# Altium integrated library WE-VS SMD Varistor.IntLib: 55 symbols
Pins are listed as number, name and electrical type; pins without a type are passive.

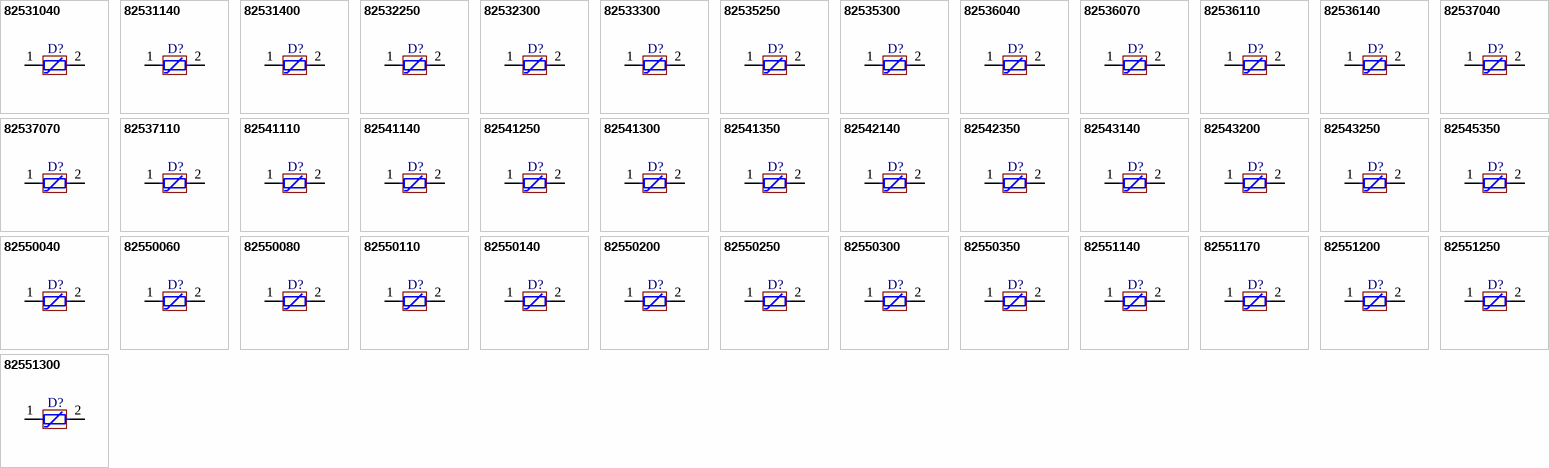
[diagram p0: symbols 82531040 to 82551300]

## 82531040
designator D?
ESD Suppressor WE-VS-SMD, VDC=5.5V; PartNumber: 82531040; Reverse Stand Off Voltage: 5.5V; PackageReference: 1206; ComponentLink1Description: Manufacturer URL; ComponentLink1URL: http://www.we-online.com; ComponentLink2Description: Datasheet; ComponentLink2URL: http://katalog.we-online.de/kataloge/eisos/media/pdf/82531040.pdf
footprint 1206 (1206,2-Leads, Body 6.5x2.2mm, Pitch 2.7mm)
pins: 1 I/O1, 2 I/O1

## 82531140
designator D?
ESD Suppressor WE-VS-SMD, VDC=18.0V; PartNumber: 82531140; Reverse Stand Off Voltage: 18.0V; PackageReference: 1206; ComponentLink1Description: Manufacturer URL; ComponentLink1URL: http://www.we-online.com; ComponentLink2Description: Datasheet; ComponentLink2URL: http://katalog.we-online.de/kataloge/eisos/media/pdf/82531140.pdf
footprint 1206 (1206,2-Leads, Body 6.5x2.2mm, Pitch 2.7mm)
pins: 1 I/O1, 2 I/O1

## 82531400
designator D?
ESD Suppressor WE-VS-SMD, VDC=5.5V; PartNumber: 82531400; Reverse Stand Off Voltage: 56.0V; PackageReference: 1206; ComponentLink1Description: Manufacturer URL; ComponentLink1URL: http://www.we-online.com; ComponentLink2Description: Datasheet; ComponentLink2URL: http://katalog.we-online.de/kataloge/eisos/media/pdf/82531400.pdf
footprint 1206 (1206,2-Leads, Body 6.5x2.2mm, Pitch 2.7mm)
pins: 1 I/O1, 2 I/O1

## 82532250
designator D?
ESD Suppressor WE-VS-SMD, VDC=30.0V; PartNumber: 82532250; Reverse Stand Off Voltage: 30.0V; PackageReference: 2220; ComponentLink1Description: Manufacturer URL; ComponentLink1URL: http://www.we-online.com; ComponentLink2Description: Datasheet; ComponentLink2URL: http://katalog.we-online.de/kataloge/eisos/media/pdf/82532250.pdf
footprint 2220 (2220, 2-Leads, Body 9.4x5.7mm, Pitch 6.7mm)
pins: 1 I/O1, 2 I/O1

## 82532300
designator D?
ESD Suppressor WE-VS-SMD, VDC=38.0V; PartNumber: 82532300; Reverse Stand Off Voltage: 38.0V; PackageReference: 2220; ComponentLink1Description: Manufacturer URL; ComponentLink1URL: http://www.we-online.com; ComponentLink2Description: Datasheet; ComponentLink2URL: http://katalog.we-online.de/kataloge/eisos/media/pdf/82532300.pdf
footprint 2220 (2220, 2-Leads, Body 9.4x5.7mm, Pitch 6.7mm)
pins: 1 I/O1, 2 I/O1

## 82533300
designator D?
ESD Suppressor WE-VS-SMD, VDC=38.0V; PartNumber: 82533300; Reverse Stand Off Voltage: 38.0V; PackageReference: 1210; ComponentLink1Description: Manufacturer URL; ComponentLink1URL: http://www.we-online.com; ComponentLink2Description: Datasheet; ComponentLink2URL: http://katalog.we-online.de/kataloge/eisos/media/pdf/82533300.pdf
footprint 1210 (1210, 2-Leads, Body 6.9x3.3mm, Pitch 4.5mm)
pins: 1 I/O1, 2 I/O1

## 82535250
designator D?
ESD Suppressor WE-VS-SMD, VDC=30.0V; PartNumber: 82535250; Reverse Stand Off Voltage: 30.0V; PackageReference: 1812; ComponentLink1Description: Manufacturer URL; ComponentLink1URL: http://www.we-online.com; ComponentLink2Description: Datasheet; ComponentLink2URL: http://katalog.we-online.de/kataloge/eisos/media/pdf/82535250.pdf
footprint 1812 (1812, 2-Leads, Body 8.2x3.9mm, Pitch 5.6mm)
pins: 1 I/O1, 2 I/O1

## 82535300
designator D?
ESD Suppressor WE-VS-SMD, VDC=38.0V; PartNumber: 82535300; Reverse Stand Off Voltage: 38.0V; PackageReference: 1812; ComponentLink1Description: Manufacturer URL; ComponentLink1URL: http://www.we-online.com; ComponentLink2Description: Datasheet; ComponentLink2URL: http://katalog.we-online.de/kataloge/eisos/media/pdf/82535300.pdf
footprint 1812 (1812, 2-Leads, Body 8.2x3.9mm, Pitch 5.6mm)
pins: 1 I/O1, 2 I/O1

## 82536040
designator D?
ESD Suppressor WE-VS-SMD, VDC=5.5V; PartNumber: 82536040; Reverse Stand Off Voltage: 5.5V; PackageReference: 0603; ComponentLink1Description: Manufacturer URL; ComponentLink1URL: http://www.we-online.com; ComponentLink2Description: Datasheet; ComponentLink2URL: http://katalog.we-online.de/kataloge/eisos/media/pdf/82536040.pdf
footprint 0603 (0603, 2-Leads, Body 3.6x1.4mm, Pitch 2.3mm)
pins: 1 I/O1, 2 I/O1

## 82536070
designator D?
ESD Suppressor WE-VS-SMD, VDC=9.0V; PartNumber: 82536070; Reverse Stand Off Voltage: 9.0V; PackageReference: 0603; ComponentLink1Description: Manufacturer URL; ComponentLink1URL: http://www.we-online.com; ComponentLink2Description: Datasheet; ComponentLink2URL: http://katalog.we-online.de/kataloge/eisos/media/pdf/82536070.pdf
footprint 0603 (0603, 2-Leads, Body 3.6x1.4mm, Pitch 2.3mm)
pins: 1 I/O1, 2 I/O1

## 82536110
designator D?
ESD Suppressor WE-VS-SMD, VDC=14.0V; PartNumber: 82536110; Reverse Stand Off Voltage: 14.0V; PackageReference: 0603; ComponentLink1Description: Manufacturer URL; ComponentLink1URL: http://www.we-online.com; ComponentLink2Description: Datasheet; ComponentLink2URL: http://katalog.we-online.de/kataloge/eisos/media/pdf/82536110.pdf
footprint 0603 (0603, 2-Leads, Body 3.6x1.4mm, Pitch 2.3mm)
pins: 1 I/O1, 2 I/O1

## 82536140
designator D?
ESD Suppressor WE-VS-SMD, VDC=18.0V; PartNumber: 82536140; Reverse Stand Off Voltage: 18.0V; PackageReference: 0603; ComponentLink1Description: Manufacturer URL; ComponentLink1URL: http://www.we-online.com; ComponentLink2Description: Datasheet; ComponentLink2URL: http://katalog.we-online.de/kataloge/eisos/media/pdf/82536140.pdf
footprint 0603 (0603, 2-Leads, Body 3.6x1.4mm, Pitch 2.3mm)
pins: 1 I/O1, 2 I/O1

## 82537040
designator D?
ESD Suppressor WE-VS-SMD, VDC=5.5V; PartNumber: 82537040; Reverse Stand Off Voltage: 5.5V; PackageReference: 0402; ComponentLink1Description: Manufacturer URL; ComponentLink1URL: http://www.we-online.com; ComponentLink2Description: Datasheet; ComponentLink2URL: http://katalog.we-online.de/kataloge/eisos/media/pdf/82537040.pdf
footprint 0402 (0402, 2-Leads, Body 2.3x0.7mm, Pitch 1.4mm)
pins: 1 I/O1, 2 I/O1

## 82537070
designator D?
ESD Suppressor WE-VS-SMD, VDC=9.0V; PartNumber: 82537070; Reverse Stand Off Voltage: 9.0V; PackageReference: 0402; ComponentLink1Description: Manufacturer URL; ComponentLink1URL: http://www.we-online.com; ComponentLink2Description: Datasheet; ComponentLink2URL: http://katalog.we-online.de/kataloge/eisos/media/pdf/82537070.pdf
footprint 0402 (0402, 2-Leads, Body 2.3x0.7mm, Pitch 1.4mm)
pins: 1 I/O1, 2 I/O1

## 82537110
designator D?
ESD Suppressor WE-VS-SMD, VDC=14.0V; PartNumber: 82537110; Reverse Stand Off Voltage: 14.0V; PackageReference: 0402; ComponentLink1Description: Manufacturer URL; ComponentLink1URL: http://www.we-online.com; ComponentLink2Description: Datasheet; ComponentLink2URL: http://katalog.we-online.de/kataloge/eisos/media/pdf/82537110.pdf
footprint 0402 (0402, 2-Leads, Body 2.3x0.7mm, Pitch 1.4mm)
pins: 1 I/O1, 2 I/O1

## 82541110
designator D?
ESD Suppressor WE-VS-SMD, VDC=14.0V; PartNumber: 82541110; Reverse Stand Off Voltage: 14.0V; PackageReference: 1206; ComponentLink1Description: Manufacturer URL; ComponentLink1URL: http://www.we-online.com; ComponentLink2Description: Datasheet; ComponentLink2URL: http://katalog.we-online.de/kataloge/eisos/media/pdf/82541110.pdf
footprint 1206 (1206,2-Leads, Body 6.5x2.2mm, Pitch 2.7mm)
pins: 1 I/O1, 2 I/O1

## 82541140
designator D?
ESD Suppressor WE-VS-SMD, VDC=18.0V; PartNumber: 82541140; Reverse Stand Off Voltage: 18.0V; PackageReference: 1206; ComponentLink1Description: Manufacturer URL; ComponentLink1URL: http://www.we-online.com; ComponentLink2Description: Datasheet; ComponentLink2URL: http://katalog.we-online.de/kataloge/eisos/media/pdf/82541140.pdf
footprint 1206 (1206,2-Leads, Body 6.5x2.2mm, Pitch 2.7mm)
pins: 1 I/O1, 2 I/O1

## 82541250
designator D?
ESD Suppressor WE-VS-SMD, VDC=30.0V; PartNumber: 82541250; Reverse Stand Off Voltage: 30.0V; PackageReference: 1206; ComponentLink1Description: Manufacturer URL; ComponentLink1URL: http://www.we-online.com; ComponentLink2Description: Datasheet; ComponentLink2URL: http://katalog.we-online.de/kataloge/eisos/media/pdf/82541250.pdf
footprint 1206 (1206,2-Leads, Body 6.5x2.2mm, Pitch 2.7mm)
pins: 1 I/O1, 2 I/O1

## 82541300
designator D?
ESD Suppressor WE-VS-SMD, VDC=38.0V; PartNumber: 82541300; Reverse Stand Off Voltage: 38.0V; PackageReference: 1206; ComponentLink1Description: Manufacturer URL; ComponentLink1URL: http://www.we-online.com; ComponentLink2Description: Datasheet; ComponentLink2URL: http://katalog.we-online.de/kataloge/eisos/media/pdf/82541300.pdf
footprint 1206 (1206,2-Leads, Body 6.5x2.2mm, Pitch 2.7mm)
pins: 1 I/O1, 2 I/O1

## 82541350
designator D?
ESD Suppressor WE-VS-SMD, VDC=45.0V; PartNumber: 82541350; Reverse Stand Off Voltage: 45.0V; PackageReference: 1206; ComponentLink1Description: Manufacturer URL; ComponentLink1URL: http://www.we-online.com; ComponentLink2Description: Datasheet; ComponentLink2URL: http://katalog.we-online.de/kataloge/eisos/media/pdf/82541350.pdf
footprint 1206 (1206,2-Leads, Body 6.5x2.2mm, Pitch 2.7mm)
pins: 1 I/O1, 2 I/O1

## 82542140
designator D?
ESD Suppressor WE-VS-SMD, VDC=18.0V; PartNumber: 82542140; Reverse Stand Off Voltage: 18.0V; PackageReference: 2220; ComponentLink1Description: Manufacturer URL; ComponentLink1URL: http://www.we-online.com; ComponentLink2Description: Datasheet; ComponentLink2URL: http://katalog.we-online.de/kataloge/eisos/media/pdf/82542140.pdf
footprint 2220 (2220, 2-Leads, Body 9.4x5.7mm, Pitch 6.7mm)
pins: 1 I/O1, 2 I/O1

## 82542350
designator D?
ESD Suppressor WE-VS-SMD, VDC=45.0V; PartNumber: 82542350; Reverse Stand Off Voltage: 45.0V; PackageReference: 2220; ComponentLink1Description: Manufacturer URL; ComponentLink1URL: http://www.we-online.com; ComponentLink2Description: Datasheet; ComponentLink2URL: http://katalog.we-online.de/kataloge/eisos/media/pdf/82542350.pdf
footprint 2220 (2220, 2-Leads, Body 9.4x5.7mm, Pitch 6.7mm)
pins: 1 I/O1, 2 I/O1

## 82543140
designator D?
ESD Suppressor WE-VS-SMD, VDC=18.0V; PartNumber: 82543140; Reverse Stand Off Voltage: 18.0V; PackageReference: 1210; ComponentLink1Description: Manufacturer URL; ComponentLink1URL: http://www.we-online.com; ComponentLink2Description: Datasheet; ComponentLink2URL: http://katalog.we-online.de/kataloge/eisos/media/pdf/82543140.pdf
footprint 1210 (1210, 2-Leads, Body 6.9x3.3mm, Pitch 4.5mm)
pins: 1 I/O1, 2 I/O1

## 82543200
designator D?
ESD Suppressor WE-VS-SMD, VDC=26.0V; PartNumber: 82543200; Reverse Stand Off Voltage: 26.0V; PackageReference: 1210; ComponentLink1Description: Manufacturer URL; ComponentLink1URL: http://www.we-online.com; ComponentLink2Description: Datasheet; ComponentLink2URL: http://katalog.we-online.de/kataloge/eisos/media/pdf/82543200.pdf
footprint 1210 (1210, 2-Leads, Body 6.9x3.3mm, Pitch 4.5mm)
pins: 1 I/O1, 2 I/O1

## 82543250
designator D?
ESD Suppressor WE-VS-SMD, VDC=30.0V; PartNumber: 82543250; Reverse Stand Off Voltage: 30.0V; PackageReference: 1210; ComponentLink1Description: Manufacturer URL; ComponentLink1URL: http://www.we-online.com; ComponentLink2Description: Datasheet; ComponentLink2URL: http://katalog.we-online.de/kataloge/eisos/media/pdf/82543250.pdf
footprint 1210 (1210, 2-Leads, Body 6.9x3.3mm, Pitch 4.5mm)
pins: 1 I/O1, 2 I/O1

## 82545350
designator D?
ESD Suppressor WE-VS-SMD, VDC=45.0V; PartNumber: 82545350; Reverse Stand Off Voltage: 45.0V; PackageReference: 1812; ComponentLink1Description: Manufacturer URL; ComponentLink1URL: http://www.we-online.com; ComponentLink2Description: Datasheet; ComponentLink2URL: http://katalog.we-online.de/kataloge/eisos/media/pdf/82545350.pdf
footprint 1812 (1812, 2-Leads, Body 8.2x3.9mm, Pitch 5.6mm)
pins: 1 I/O1, 2 I/O1

## 82550040
designator D?
ESD Suppressor WE-VS-SMD, VDC=5.5V; PartNumber: 82550040; Reverse Stand Off Voltage: 5.5V; PackageReference: 0805; ComponentLink1Description: Manufacturer URL; ComponentLink1URL: http://www.we-online.com; ComponentLink2Description: Datasheet; ComponentLink2URL: http://katalog.we-online.de/kataloge/eisos/media/pdf/82550040.pdf
footprint 0805 (0805, 2-Leads, Body 4.7x1.8mm, Pitch 3mm)
pins: 1 I/O1, 2 I/O1

## 82550060
designator D?
ESD Suppressor WE-VS-SMD, VDC=9.0V; PartNumber: 82550060; Reverse Stand Off Voltage: 9.0V; PackageReference: 0805; ComponentLink1Description: Manufacturer URL; ComponentLink1URL: http://www.we-online.com; ComponentLink2Description: Datasheet; ComponentLink2URL: http://katalog.we-online.de/kataloge/eisos/media/pdf/82550060.pdf
footprint 0805 (0805, 2-Leads, Body 4.7x1.8mm, Pitch 3mm)
pins: 1 I/O1, 2 I/O1

## 82550080
designator D?
ESD Suppressor WE-VS-SMD, VDC=11.0V; PartNumber: 82550080; Reverse Stand Off Voltage: 11.0V; PackageReference: 0805; ComponentLink1Description: Manufacturer URL; ComponentLink1URL: http://www.we-online.com; ComponentLink2Description: Datasheet; ComponentLink2URL: http://katalog.we-online.de/kataloge/eisos/media/pdf/82550080.pdf
footprint 0805 (0805, 2-Leads, Body 4.7x1.8mm, Pitch 3mm)
pins: 1 I/O1, 2 I/O1

## 82550110
designator D?
ESD Suppressor WE-VS-SMD, VDC=14.0V; PartNumber: 82550110; Reverse Stand Off Voltage: 14.0V; PackageReference: 0805; ComponentLink1Description: Manufacturer URL; ComponentLink1URL: http://www.we-online.com; ComponentLink2Description: Datasheet; ComponentLink2URL: http://katalog.we-online.de/kataloge/eisos/media/pdf/82550110.pdf
footprint 0805 (0805, 2-Leads, Body 4.7x1.8mm, Pitch 3mm)
pins: 1 I/O1, 2 I/O1

## 82550140
designator D?
ESD Suppressor WE-VS-SMD, VDC=18.0V; PartNumber: 82550140; Reverse Stand Off Voltage: 18.0V; PackageReference: 0805; ComponentLink1Description: Manufacturer URL; ComponentLink1URL: http://www.we-online.com; ComponentLink2Description: Datasheet; ComponentLink2URL: http://katalog.we-online.de/kataloge/eisos/media/pdf/82550140.pdf
footprint 0805 (0805, 2-Leads, Body 4.7x1.8mm, Pitch 3mm)
pins: 1 I/O1, 2 I/O1

## 82550200
designator D?
ESD Suppressor WE-VS-SMD, VDC=26.0V; PartNumber: 82550200; Reverse Stand Off Voltage: 26.0V; PackageReference: 0805; ComponentLink1Description: Manufacturer URL; ComponentLink1URL: http://www.we-online.com; ComponentLink2Description: Datasheet; ComponentLink2URL: http://katalog.we-online.de/kataloge/eisos/media/pdf/82550200.pdf
footprint 0805 (0805, 2-Leads, Body 4.7x1.8mm, Pitch 3mm)
pins: 1 I/O1, 2 I/O1

## 82550250
designator D?
ESD Suppressor WE-VS-SMD, VDC=30.0V; PartNumber: 82550250; Reverse Stand Off Voltage: 30.0V; PackageReference: 0805; ComponentLink1Description: Manufacturer URL; ComponentLink1URL: http://www.we-online.com; ComponentLink2Description: Datasheet; ComponentLink2URL: http://katalog.we-online.de/kataloge/eisos/media/pdf/82550250.pdf
footprint 0805 (0805, 2-Leads, Body 4.7x1.8mm, Pitch 3mm)
pins: 1 I/O1, 2 I/O1

## 82550300
designator D?
ESD Suppressor WE-VS-SMD, VDC=38.0V; PartNumber: 82550300; Reverse Stand Off Voltage: 38.0V; PackageReference: 0805; ComponentLink1Description: Manufacturer URL; ComponentLink1URL: http://www.we-online.com; ComponentLink2Description: Datasheet; ComponentLink2URL: http://katalog.we-online.de/kataloge/eisos/media/pdf/82550300.pdf
footprint 0805 (0805, 2-Leads, Body 4.7x1.8mm, Pitch 3mm)
pins: 1 I/O1, 2 I/O1

## 82550350
designator D?
ESD Suppressor WE-VS-SMD, VDC=45.0V; PartNumber: 82550350; Reverse Stand Off Voltage: 45.0V; PackageReference: 0805; ComponentLink1Description: Manufacturer URL; ComponentLink1URL: http://www.we-online.com; ComponentLink2Description: Datasheet; ComponentLink2URL: http://katalog.we-online.de/kataloge/eisos/media/pdf/82550350.pdf
footprint 0805 (0805, 2-Leads, Body 4.7x1.8mm, Pitch 3mm)
pins: 1 I/O1, 2 I/O1

## 82551140
designator D?
ESD Suppressor WE-VS-SMD, VDC=18.0V; PartNumber: 82551140; Reverse Stand Off Voltage: 18.0V; PackageReference: 1206; ComponentLink1Description: Manufacturer URL; ComponentLink1URL: http://www.we-online.com; ComponentLink2Description: Datasheet; ComponentLink2URL: http://katalog.we-online.de/kataloge/eisos/media/pdf/82551140.pdf
footprint 1206 (1206,2-Leads, Body 6.5x2.2mm, Pitch 2.7mm)
pins: 1 I/O1, 2 I/O1

## 82551170
designator D?
ESD Suppressor WE-VS-SMD, VDC=22.0V; PartNumber: 82551170; Reverse Stand Off Voltage: 22.0V; PackageReference: 1206; ComponentLink1Description: Manufacturer URL; ComponentLink1URL: http://www.we-online.com; ComponentLink2Description: Datasheet; ComponentLink2URL: http://katalog.we-online.de/kataloge/eisos/media/pdf/82551170.pdf
footprint 1206 (1206,2-Leads, Body 6.5x2.2mm, Pitch 2.7mm)
pins: 1 I/O1, 2 I/O1

## 82551200
designator D?
ESD Suppressor WE-VS-SMD, VDC=26.0V; PartNumber: 82551200; Reverse Stand Off Voltage: 26.0V; PackageReference: 1206; ComponentLink1Description: Manufacturer URL; ComponentLink1URL: http://www.we-online.com; ComponentLink2Description: Datasheet; ComponentLink2URL: http://katalog.we-online.de/kataloge/eisos/media/pdf/82551200.pdf
footprint 1206 (1206,2-Leads, Body 6.5x2.2mm, Pitch 2.7mm)
pins: 1 I/O1, 2 I/O1

## 82551250
designator D?
ESD Suppressor WE-VS-SMD, VDC=30.0V; PartNumber: 82551250; Reverse Stand Off Voltage: 30.0V; PackageReference: 1206; ComponentLink1Description: Manufacturer URL; ComponentLink1URL: http://www.we-online.com; ComponentLink2Description: Datasheet; ComponentLink2URL: http://katalog.we-online.de/kataloge/eisos/media/pdf/82551250.pdf
footprint 1206 (1206,2-Leads, Body 6.5x2.2mm, Pitch 2.7mm)
pins: 1 I/O1, 2 I/O1

## 82551300
designator D?
ESD Suppressor WE-VS-SMD, VDC=38.0V; PartNumber: 82551300; Reverse Stand Off Voltage: 38.0V; PackageReference: 1206; ComponentLink1Description: Manufacturer URL; ComponentLink1URL: http://www.we-online.com; ComponentLink2Description: Datasheet; ComponentLink2URL: http://katalog.we-online.de/kataloge/eisos/media/pdf/82551300.pdf
footprint 1206 (1206,2-Leads, Body 6.5x2.2mm, Pitch 2.7mm)
pins: 1 I/O1, 2 I/O1

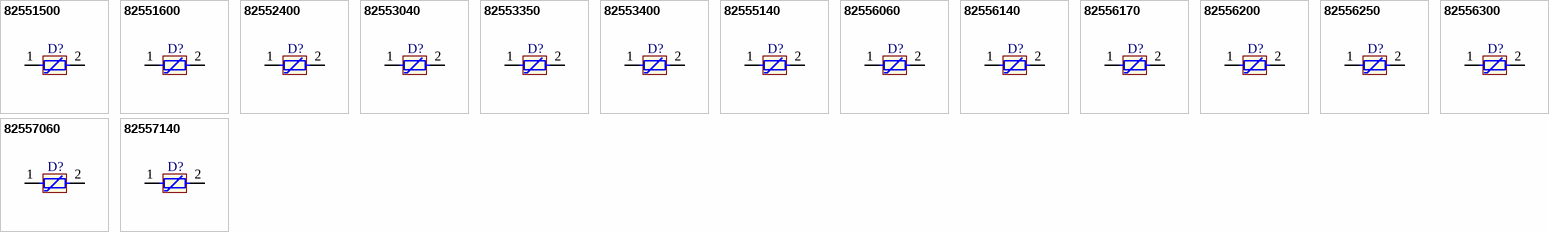
[diagram p1: symbols 82551500 to 82557140]

## 82551500
designator D?
ESD Suppressor WE-VS-SMD, VDC=65.0V; PartNumber: 82551500; Reverse Stand Off Voltage: 65.0V; PackageReference: 1206; ComponentLink1Description: Manufacturer URL; ComponentLink1URL: http://www.we-online.com; ComponentLink2Description: Datasheet; ComponentLink2URL: http://katalog.we-online.de/kataloge/eisos/media/pdf/82551500.pdf
footprint 1206 (1206,2-Leads, Body 6.5x2.2mm, Pitch 2.7mm)
pins: 1 I/O1, 2 I/O1

## 82551600
designator D?
ESD Suppressor WE-VS-SMD, VDC=85.0V; PartNumber: 82551600; Reverse Stand Off Voltage: 85.0V; PackageReference: 1206; ComponentLink1Description: Manufacturer URL; ComponentLink1URL: http://www.we-online.com; ComponentLink2Description: Datasheet; ComponentLink2URL: http://katalog.we-online.de/kataloge/eisos/media/pdf/82551600.pdf
footprint 1206 (1206,2-Leads, Body 6.5x2.2mm, Pitch 2.7mm)
pins: 1 I/O1, 2 I/O1

## 82552400
designator D?
ESD Suppressor WE-VS-SMD, VDC=56.0V; PartNumber: 82552400; Reverse Stand Off Voltage: 56.0V; PackageReference: 2220; ComponentLink1Description: Manufacturer URL; ComponentLink1URL: http://www.we-online.com; ComponentLink2Description: Datasheet; ComponentLink2URL: http://katalog.we-online.de/kataloge/eisos/media/pdf/82552400.pdf
footprint 2220 (2220, 2-Leads, Body 9.4x5.7mm, Pitch 6.7mm)
pins: 1 I/O1, 2 I/O1

## 82553040
designator D?
ESD Suppressor WE-VS-SMD, VDC=5.5V; PartNumber: 82553040; Reverse Stand Off Voltage: 5.5V; PackageReference: 1210; ComponentLink1Description: Manufacturer URL; ComponentLink1URL: http://www.we-online.com; ComponentLink2Description: Datasheet; ComponentLink2URL: http://katalog.we-online.de/kataloge/eisos/media/pdf/82553040.pdf
footprint 1210 (1210, 2-Leads, Body 6.9x3.3mm, Pitch 4.5mm)
pins: 1 I/O1, 2 I/O1

## 82553350
designator D?
ESD Suppressor WE-VS-SMD, VDC=45.0V; PartNumber: 82553350; Reverse Stand Off Voltage: 45.0V; PackageReference: 1210; ComponentLink1Description: Manufacturer URL; ComponentLink1URL: http://www.we-online.com; ComponentLink2Description: Datasheet; ComponentLink2URL: http://katalog.we-online.de/kataloge/eisos/media/pdf/82553350.pdf
footprint 1210 (1210, 2-Leads, Body 6.9x3.3mm, Pitch 4.5mm)
pins: 1 I/O1, 2 I/O1

## 82553400
designator D?
ESD Suppressor WE-VS-SMD, VDC=56.0V; PartNumber: 82553400; Reverse Stand Off Voltage: 56.0V; PackageReference: 1210; ComponentLink1Description: Manufacturer URL; ComponentLink1URL: http://www.we-online.com; ComponentLink2Description: Datasheet; ComponentLink2URL: http://katalog.we-online.de/kataloge/eisos/media/pdf/82553400.pdf
footprint 1210 (1210, 2-Leads, Body 6.9x3.3mm, Pitch 4.5mm)
pins: 1 I/O1, 2 I/O1

## 82555140
designator D?
ESD Suppressor WE-VS-SMD, VDC=18.0V; PartNumber: 82555140; Reverse Stand Off Voltage: 18.0V; PackageReference: 1812; ComponentLink1Description: Manufacturer URL; ComponentLink1URL: http://www.we-online.com; ComponentLink2Description: Datasheet; ComponentLink2URL: http://katalog.we-online.de/kataloge/eisos/media/pdf/82555140.pdf
footprint 1812 (1812, 2-Leads, Body 8.2x3.9mm, Pitch 5.6mm)
pins: 1 I/O1, 2 I/O1

## 82556060
designator D?
ESD Suppressor WE-VS-SMD, VDC=9.0V; PartNumber: 82556060; Reverse Stand Off Voltage: 9.0V; PackageReference: 0603; ComponentLink1Description: Manufacturer URL; ComponentLink1URL: http://www.we-online.com; ComponentLink2Description: Datasheet; ComponentLink2URL: http://katalog.we-online.de/kataloge/eisos/media/pdf/82556060.pdf
footprint 0603 (0603, 2-Leads, Body 3.6x1.4mm, Pitch 2.3mm)
pins: 1 I/O1, 2 I/O1

## 82556140
designator D?
ESD Suppressor WE-VS-SMD, VDC=18.0V; PartNumber: 82556140; Reverse Stand Off Voltage: 18.0V; PackageReference: 0603; ComponentLink1Description: Manufacturer URL; ComponentLink1URL: http://www.we-online.com; ComponentLink2Description: Datasheet; ComponentLink2URL: http://katalog.we-online.de/kataloge/eisos/media/pdf/82556140.pdf
footprint 0603 (0603, 2-Leads, Body 3.6x1.4mm, Pitch 2.3mm)
pins: 1 I/O1, 2 I/O1

## 82556170
designator D?
ESD Suppressor WE-VS-SMD, VDC=22.0V; PartNumber: 82556170; Reverse Stand Off Voltage: 22.0V; PackageReference: 0603; ComponentLink1Description: Manufacturer URL; ComponentLink1URL: http://www.we-online.com; ComponentLink2Description: Datasheet; ComponentLink2URL: http://katalog.we-online.de/kataloge/eisos/media/pdf/82556170.pdf
footprint 0603 (0603, 2-Leads, Body 3.6x1.4mm, Pitch 2.3mm)
pins: 1 I/O1, 2 I/O1

## 82556200
designator D?
ESD Suppressor WE-VS-SMD, VDC=26.0V; PartNumber: 82556200; Reverse Stand Off Voltage: 26.0V; PackageReference: 0603; ComponentLink1Description: Manufacturer URL; ComponentLink1URL: http://www.we-online.com; ComponentLink2Description: Datasheet; ComponentLink2URL: http://katalog.we-online.de/kataloge/eisos/media/pdf/82556200.pdf
footprint 0603 (0603, 2-Leads, Body 3.6x1.4mm, Pitch 2.3mm)
pins: 1 I/O1, 2 I/O1

## 82556250
designator D?
ESD Suppressor WE-VS-SMD, VDC=30.0V; PartNumber: 82556250; Reverse Stand Off Voltage: 30.0V; PackageReference: 0603; ComponentLink1Description: Manufacturer URL; ComponentLink1URL: http://www.we-online.com; ComponentLink2Description: Datasheet; ComponentLink2URL: http://katalog.we-online.de/kataloge/eisos/media/pdf/82556250.pdf
footprint 0603 (0603, 2-Leads, Body 3.6x1.4mm, Pitch 2.3mm)
pins: 1 I/O1, 2 I/O1

## 82556300
designator D?
ESD Suppressor WE-VS-SMD, VDC=38.0V; PartNumber: 82556300; Reverse Stand Off Voltage: 38.0V; PackageReference: 0603; ComponentLink1Description: Manufacturer URL; ComponentLink1URL: http://www.we-online.com; ComponentLink2Description: Datasheet; ComponentLink2URL: http://katalog.we-online.de/kataloge/eisos/media/pdf/82556300.pdf
footprint 0603 (0603, 2-Leads, Body 3.6x1.4mm, Pitch 2.3mm)
pins: 1 I/O1, 2 I/O1

## 82557060
designator D?
ESD Suppressor WE-VS-SMD, VDC=9.0V; PartNumber: 82557060; Reverse Stand Off Voltage: 9.0V; PackageReference: 0402; ComponentLink1Description: Manufacturer URL; ComponentLink1URL: http://www.we-online.com; ComponentLink2Description: Datasheet; ComponentLink2URL: http://katalog.we-online.de/kataloge/eisos/media/pdf/82557060.pdf
footprint 0402 (0402, 2-Leads, Body 2.3x0.7mm, Pitch 1.4mm)
pins: 1 I/O1, 2 I/O1

## 82557140
designator D?
ESD Suppressor WE-VS-SMD, VDC=18.0V; PartNumber: 82557140; Reverse Stand Off Voltage: 18.0V; PackageReference: 0402; ComponentLink1Description: Manufacturer URL; ComponentLink1URL: http://www.we-online.com; ComponentLink2Description: Datasheet; ComponentLink2URL: http://katalog.we-online.de/kataloge/eisos/media/pdf/82557140.pdf
footprint 0402 (0402, 2-Leads, Body 2.3x0.7mm, Pitch 1.4mm)
pins: 1 I/O1, 2 I/O1